# EAGLE library part TDA2005 (library simple-parts)
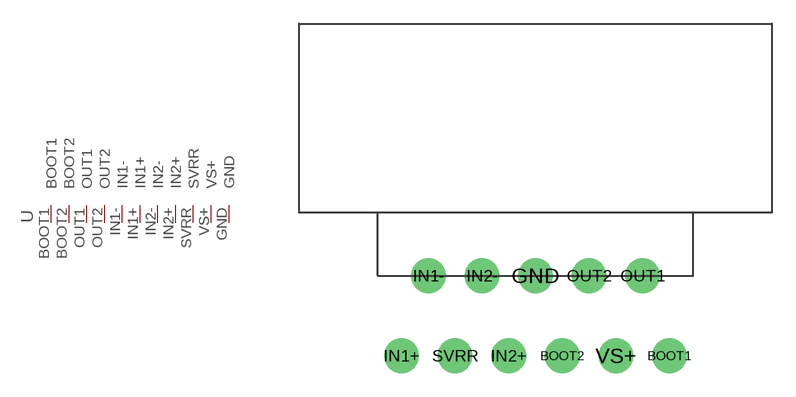
[diagram p1: symbol with the pads of TDA2005; footprint TDA2005]

Designator prefix -

## TDA2005TDA2005  [TDA2005]
BOOT1  BOOT1
BOOT2  BOOT2
GND  GND
IN1+  IN1+
IN1-  IN1-
IN2+  IN2+
IN2-  IN2-
OUT1  OUT1
OUT2  OUT2
SVRR  SVRR
VS+  VS+

## Footprint TDA2005 (pad centres in mm)
DBS13P plastic DIL-bent-SIL power package 13 leads (lead length 12 mm) SOT141-6 Source: TDA1516BQ_1.pdf
drill 0.9 pad 2.2: BOOT1 8.5,-5.08; BOOT2 1.7,-5.08; GND 0,0; IN1+ -8.5,-5.08; IN1- -6.8,0; IN2+ -1.7,-5.08; IN2- -3.4,0; OUT1 6.8,0; OUT2 3.4,0; SVRR -5.1,-5.08; VS+ 5.1,-5.08